# Altium footprint library SHDRRA4W69P0X250_1X4_1000X1350X670P.PcbLib: 1 footprints
Each footprint in its own frame and in the unit in brackets; x right, y up, seen from the top. Pads: shape width x height; smd on the part's side, far side on the other; paste and mask are expansions set on the pad; w line width, h text height; cw(c..) or ccw(c..) is an arc to the next point about the centre after c.
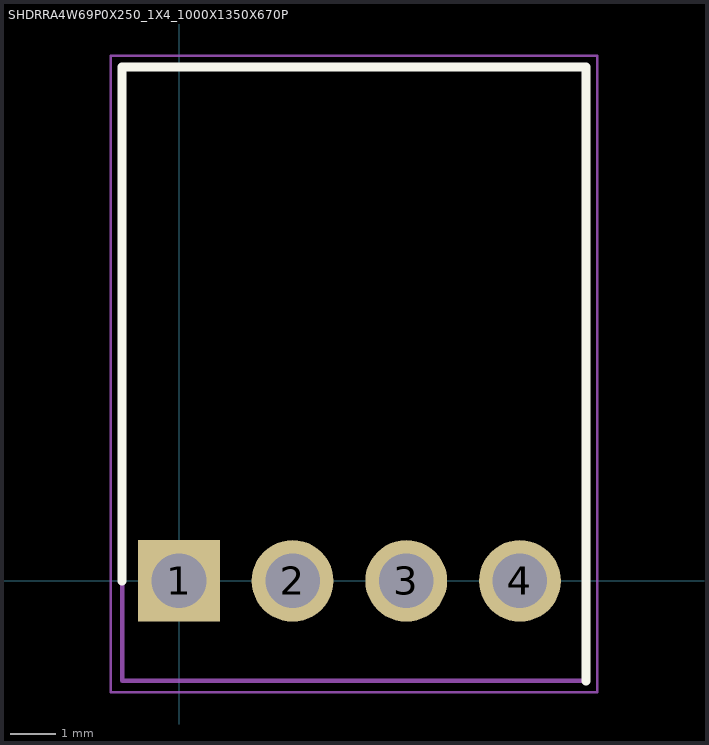
[diagram p0: the footprint, top view; thin cyan lines are the x and y axes]

## SHDRRA4W69P0X250_1X4_1000X1350X670P [mm]
pads (4):
  rect 1.8x1.8 / inner round 1.8 / far side rect 1.8x1.8 hole 1.2: 1(0,0)
  round 1.8 hole 1.2: 2(2.5,0) 3(5,0) 4(7.5,0)
Top Overlay:
  lines w0.2: -1.25,0 -1.25,11.3 8.95,11.3 8.95,-2.2
Mechanical 15:
  lines w0.1: -1.25,-2.2 8.95,-2.2 8.95,11.3 -1.25,11.3 -1.25,-2.2
Mechanical 20:
  lines w0.05: -1.5,-2.45 -1.5,11.55 9.2,11.55 9.2,-2.45 -1.5,-2.45
3D body "171826-4.stp": height 7, standoff -3.3, extent -1.397,-2.286 8.603,11.214